# Altium schematic symbol library SCH - CONNECTORS - 2x2 PIN.SCHLIB: 1 symbol
Pins are listed as number, name and electrical type; pins without a type are passive.

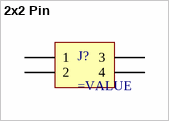
[diagram p0: symbol 2x2 Pin]

## 2x2 Pin
designator J?
pins: 1, 2, 3, 4